# Altium footprint library ATK-2014-09-12.PcbLib: 439 footprints (part 7 of 28)
Each footprint in its own frame and in the unit in brackets; x right, y up, seen from the top. Pads: shape width x height; smd on the part's side, far side on the other; paste and mask are expansions set on the pad; w line width, h text height; cw(c..) or ccw(c..) is an arc to the next point about the centre after c.
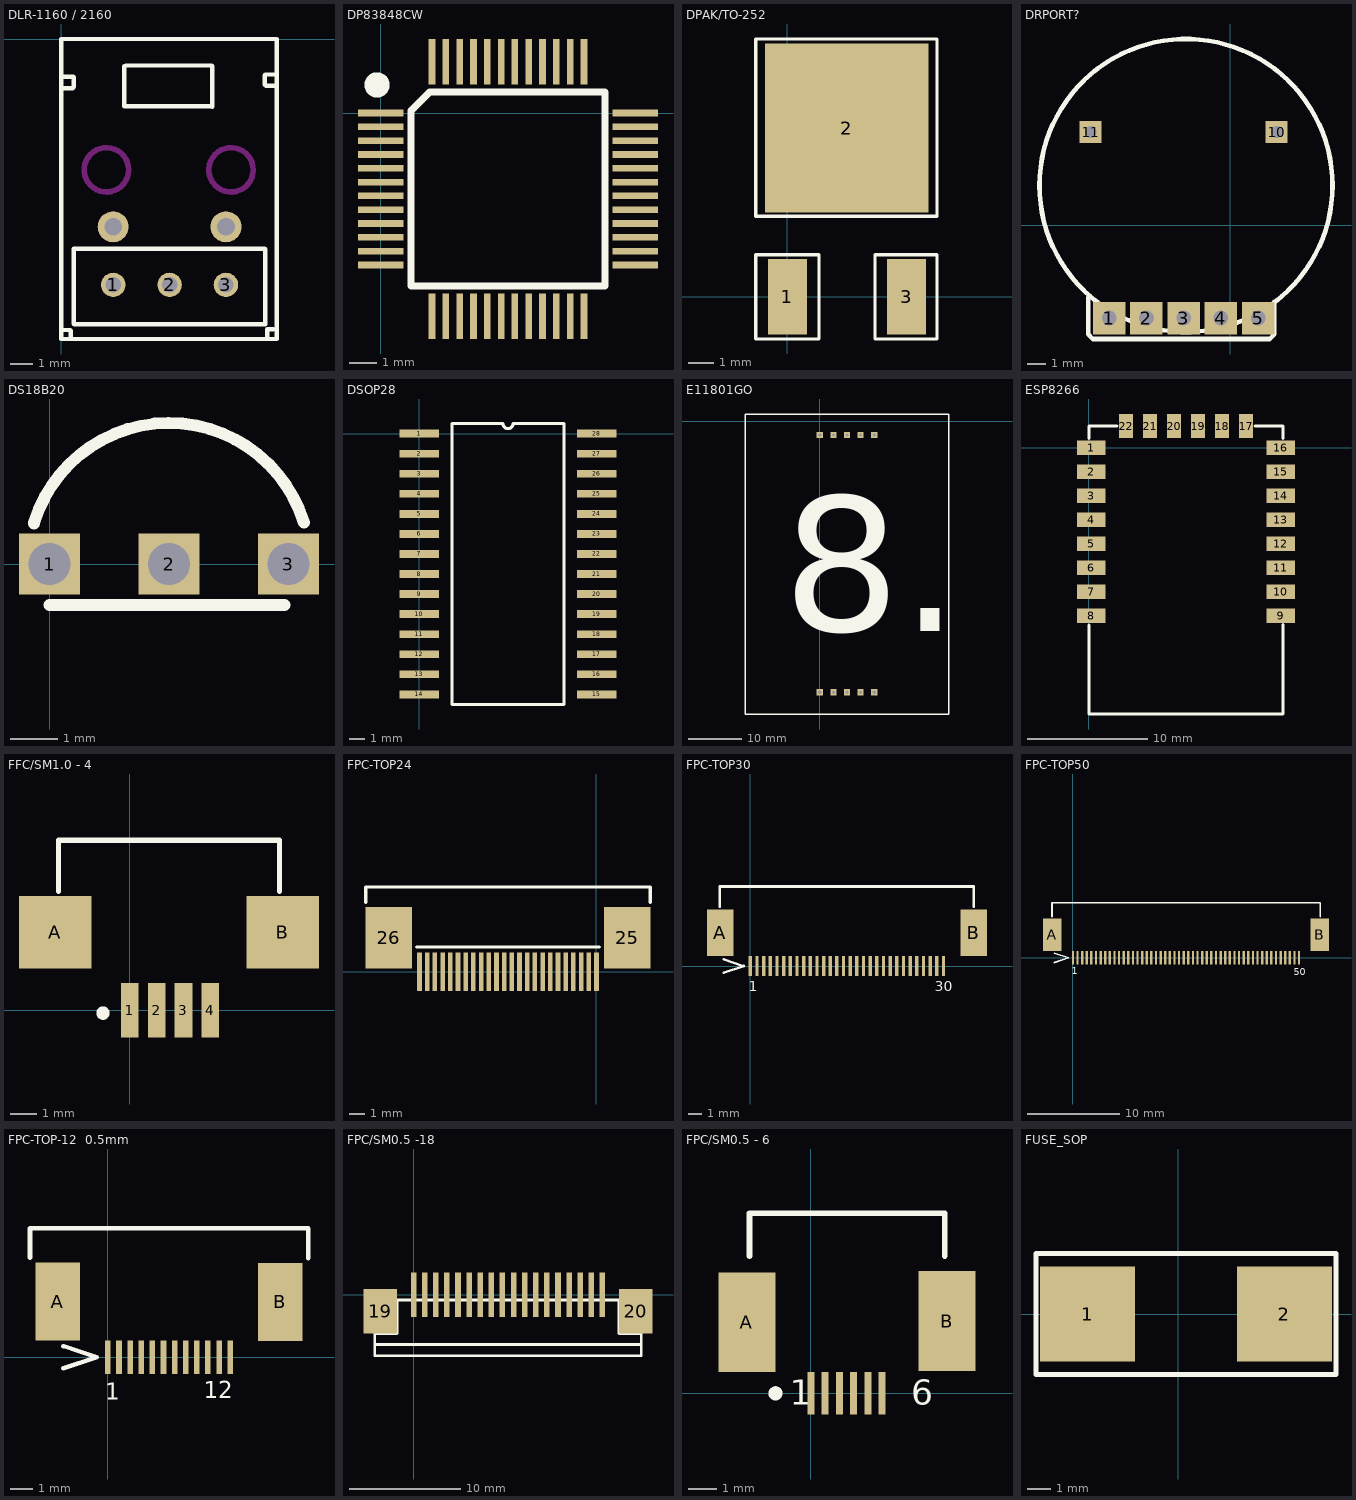
[diagram p6: the footprints below, top view; thin cyan lines are the x and y axes]

## DLR-1160 / 2160 [mm]
pads (5):
  round 1.1 hole 0.7: 1(2.337,-11.074) 2(4.877,-11.074) 3(7.417,-11.074)
  round 1.4 hole 0.8: ""(2.337,-8.458) ""(7.417,-8.458)
Top Overlay:
  lines w0.2: 0,-13.513 9.7,-13.513 ; 0,-13.5 0,0 9.7,0 ; 0.051,-1.702 0.533,-1.702 0.559,-1.727 0.559,-2.159 0.508,-2.21 0.102,-2.21 ; 0.102,-13.106 0.406,-13.106 0.432,-13.132 ; 0.432,-13.462 0.432,-13.183 ; 0.813,-9.449 9.169,-9.449 9.195,-9.474 9.195,-12.852 0.584,-12.852 0.559,-12.827 0.559,-9.449 0.838,-9.449 ; 2.845,-1.219 2.845,-3.023 6.782,-3.023 6.807,-3.048 6.807,-1.219 6.782,-1.194 2.896,-1.194 ; 9.271,-13.462 9.271,-13.081 ; 9.296,-13.081 9.55,-13.081 ; 9.601,-2.108 9.22,-2.108 9.169,-2.057 9.169,-1.626 9.195,-1.6 9.677,-1.6 ; 9.703,-13.5 9.703,0
Keep-Out Layer:
  circle w0.254: c7.645,-5.893 r1
  circle w0.254: c2.032,-5.893 r1

## DP83848CW [mil]
pads (48):
  rect 65x9.5 smd: 1(0.42,0.29) 2(0.42,-19.39) 3(0.42,-39.08) 4(0.42,-58.76) 5(0.42,-78.45) 6(0.42,-98.13) 7(0.42,-117.82) 8(0.42,-137.5) 9(0.42,-157.19) 10(0.42,-176.87) 11(0.42,-196.56) 12(0.42,-216.24) 25(362.63,-216.24) 26(362.63,-196.56) 27(362.63,-176.87) 28(362.63,-157.19) 29(362.63,-137.5) 30(362.63,-117.82) 31(362.63,-98.13) 32(362.63,-78.45) 33(362.63,-58.76) 34(362.63,-39.08) 35(362.63,-19.39) 36(362.63,0.29)
  rect 9.5x65 smd: 13(73.26,-289.08) 14(92.94,-289.08) 15(112.63,-289.08) 16(132.31,-289.08) 17(152,-289.08) 18(171.68,-289.08) 19(191.37,-289.08) 20(211.05,-289.08) 21(230.74,-289.08) 22(250.42,-289.08) 23(270.11,-289.08) 24(289.79,-289.08) 37(289.79,73.13) 38(270.11,73.13) 39(250.42,73.13) 40(230.74,73.13) 41(211.05,73.13) 42(191.37,73.13) 43(171.68,73.13) 44(152,73.13) 45(132.31,73.13) 46(112.63,73.13) 47(92.94,73.13) 48(73.26,73.13)
Top Overlay:
  circle w25: c-4.93,40.29 r5.35
  lines w10: 43.73,-245.77 43.73,3.6 69.95,29.82 319.32,29.82 319.32,-245.77 43.73,-245.77

## DPAK/TO-252 [mm] "SC-63, TO-252, SOT428"
pads (3):
  rect 1.5x2.9 smd: 1(0,0) 3(4.6,0)
  rect 6.3x6.5 smd: 2(2.286,6.502)
Top Overlay:
  lines w0.127: -1.219,-1.626 1.219,-1.626 1.219,1.626 -1.219,1.626 -1.219,-1.626 ; -1.219,3.099 -1.219,9.931 5.766,9.931 5.766,3.099 -1.219,3.099 ; 3.378,-1.626 3.378,1.626 5.766,1.626 5.766,-1.626 3.378,-1.626

## DRPORT? [mil] "DRPORT"
height 30
pads (7):
  rect 70x70 hole 31.5: 1(-260,-200) 2(-180,-200) 3(-100,-200) 4(-20,-200) 5(60,-200)
  rect 47.24x47.24 hole 25: 10(100,200) 11(-300,200)
Top Overlay:
  circle w10: c-94.96,85 r314.96
  lines w10: -305,-155 -305,-235 -295,-245 85,-245 95,-235 95,-165

## DS18B20 [mm]
height 10
pads (3):
  rect 1.3x1.3 hole 0.9: 1(0,0) 2(2.54,0) 3(5.08,0)
Top Overlay:
  lines w0.254: -0.333,0.862 cw(c2.54,0) 5.407,0.885 ; 0,-0.875 5,-0.875

## DSOP28 [mm] "DSIZE"
height 1
pads (28):
  rect 2.5x0.5 smd: 1(0,0) 2(0,-1.277) 3(0,-2.554) 4(0,-3.831) 5(0,-5.108) 6(0,-6.385) 7(0,-7.662) 8(0,-8.939) 9(0,-10.216) 10(0,-11.493) 11(0,-12.77) 12(0,-14.047) 13(0,-15.324) 14(0,-16.601) 15(11.3,-16.601) 16(11.3,-15.324) 17(11.3,-14.047) 18(11.3,-12.77) 19(11.3,-11.493) 20(11.3,-10.216) 21(11.3,-8.939) 22(11.3,-7.662) 23(11.3,-6.385) 24(11.3,-5.108) 25(11.3,-3.831) 26(11.3,-2.554) 27(11.3,-1.277) 28(11.3,0)
Top Overlay:
  lines w0.2: 2.085,-17.24 2.085,0.639 5.331,0.639 ccw(c5.65,0.639) 5.969,0.639 9.215,0.639 9.215,-17.24 2.085,-17.24

## E11801GO [mm] "E11801GO"
height 1.016
pads (10):
  rect 1.2x1.2 hole 0.635: 1(0,-2.54) 2(2.54,-2.54) 3(5.08,-2.54) 4(7.62,-2.54) 5(10.16,-2.54) 6(10.16,-50.8) 7(7.62,-50.8) 8(5.08,-50.8) 9(2.54,-50.8) 10(0,-50.8)
Top Overlay:
  lines w0.254: -10.16,1.397 22.86,1.397 24.13,1.397 24.13,-28.448 24.13,-54.864 -13.97,-54.864 -13.97,-38.862 -13.97,1.397 -9.906,1.397
  text "8." at -6.985,-39.37 h25.4

## ESP8266 [mm] "ESP8266 WIFI"
pads (22):
  rect 2.4x1.2 smd: 1(0.2,0) 2(0.2,-2) 3(0.2,-4) 4(0.2,-6) 5(0.2,-8) 6(0.2,-10) 7(0.2,-12) 8(0.2,-14) 9(16,-14) 10(16,-12) 11(16,-10) 12(16,-8) 13(16,-6) 14(16,-4) 15(16,-2) 16(16,0)
  rect 1.2x2 smd: 17(13.102,1.8) 18(11.102,1.8) 19(9.102,1.8) 20(7.102,1.8) 21(5.102,1.8) 22(3.102,1.8)
Top Overlay:
  lines w0.254: 0,-14.783 0,-22.2 16.2,-22.2 16.2,-14.732 ; 0,0.762 0,1.8 2.337,1.8 ; 13.843,1.8 16.2,1.8 16.2,0.762

## FFC/SM1.0 - 4 [mil]
height 102.36
pads (6):
  rect 26x80 smd: 1(0,0) 2(39.37,0) 3(78.74,0) 4(118.11,0)
  rect 106.3x106.3 smd: A(-110,115) B(225,115)
Top Overlay:
  circle w9.84: c-39.63,-4 r4.92
  lines w8: -105,175 -105,250 220,250 220,175

## FPC-TOP24 [mm] "FPCTOP;0.5mm;"
height 1
pads (26):
  rect 0.3x2.5 smd: 1(0,0) 2(-0.5,0) 3(-1,0) 4(-1.5,0) 5(-2,0) 6(-2.5,0) 7(-3,0) 8(-3.5,0) 9(-4,0) 10(-4.5,0) 11(-5,0) 12(-5.5,0) 13(-6,0) 14(-6.5,0) 15(-7,0) 16(-7.5,0) 17(-8,0) 18(-8.5,0) 19(-9,0) 20(-9.5,0) 21(-10,0) 22(-10.5,0) 23(-11,0) 24(-11.5,0)
  rect 3x4 smd: 25(2,2.2) 26(-13.5,2.2)
Top Overlay:
  lines w0.203: -15,4.5 -15,5.5 3.5,5.5 3.5,4.6 3.5,4.5 ; -11.7,1.6 0.2,1.6

## FPC-TOP30 [mm] "FPCTOP;0.5mm;"
height 1
pads (32):
  rect 0.25x1.5 smd: 1(0,0) 2(0.5,0) 3(1,0) 4(1.5,0) 5(2,0) 6(2.5,0) 7(3,0) 8(3.5,0) 9(4,0) 10(4.5,0) 11(5,0) 12(5.5,0) 13(6,0) 14(6.5,0) 15(7,0) 16(7.5,0) 17(8,0) 18(8.5,0) 19(9,0) 20(9.5,0) 21(10,0) 22(10.5,0) 23(11,0) 24(11.5,0) 25(12,0) 26(12.5,0) 27(13,0) 28(13.5,0) 29(14,0) 30(14.5,0)
  rect 2x3.5 smd: A(-2.25,2.5) B(16.764,2.5)
Top Overlay:
  lines w0.2: -2,-0.5 -0.5,0 -2,0.5
  lines w0.203: -2.286,4.47 -2.286,5.969 16.764,5.969 16.764,4.47
  text "30" at 13.843,-1.905 h0.76
  text "1" at -0.127,-1.905 h0.76

## FPC-TOP50 [mm] "FPCTOP;0.5mm;"
height 1
pads (52):
  rect 0.25x1.5 smd: 1(0,0) 2(0.5,0) 3(1,0) 4(1.5,0) 5(2,0) 6(2.5,0) 7(3,0) 8(3.5,0) 9(4,0) 10(4.5,0) 11(5,0) 12(5.5,0) 13(6,0) 14(6.5,0) 15(7,0) 16(7.5,0) 17(8,0) 18(8.5,0) 19(9,0) 20(9.5,0) 21(10,0) 22(10.5,0) 23(11,0) 24(11.5,0) 25(12,0) 26(12.5,0) 27(13,0) 28(13.5,0) 29(14,0) 30(14.5,0) 31(15,0) 32(15.5,0) 33(16,0) 34(16.5,0) 35(17,0) 36(17.5,0) 37(18,0) 38(18.5,0) 39(19,0) 40(19.5,0) 41(20,0) 42(20.5,0) 43(21,0) 44(21.5,0) 45(22,0) 46(22.5,0) 47(23,0) 48(23.5,0) 49(24,0) 50(24.5,0)
  rect 2x3.5 smd: A(-2.25,2.5) B(26.75,2.5)
Top Overlay:
  lines w0.2: -2,-0.5 -0.5,0 -2,0.5
  lines w0.203: -2.286,4.47 -2.286,5.969 22.306,5.969 26.797,5.969 26.797,4.47
  text "50" at 23.912,-1.894 h0.76
  text "1" at -0.142,-1.793 h0.76

## FPC-TOP-12  0.5mm [mm]
pads (14):
  rect 0.25x1.5 smd: 1(0,0) 2(0.5,0) 3(1,0) 4(1.5,0) 5(2,0) 6(2.5,0) 7(3,0) 8(3.5,0) 9(4,0) 10(4.5,0) 11(5,0) 12(5.5,0)
  rect 2x3.5 smd: A(-2.25,2.5) B(7.747,2.489)
Top Overlay:
  lines w0.2: -2,-0.5 -0.5,0 -2,0.5
  lines w0.203: -3.505,4.47 -3.505,5.791 9.017,5.791 9.017,4.445
  text "1" at -0.127,-1.905 h0.76
  text "12" at 4.318,-1.854 h0.76

## FPC/SM0.5 -18 [mm] "18PIN,1.0MM"
height 1
pads (20):
  rect 0.5x4 smd: 1(0,0) 2(1,0) 3(2,0) 4(3,0) 5(4,0) 6(5,0) 7(6,0) 8(7,0) 9(8,0) 10(9,0) 11(10,0) 12(11,0) 13(12,0) 14(13,0) 15(14,0) 16(15,0) 17(16,0) 18(17,0)
  rect 3x4 smd: 19(-3,-1.5) 20(20,-1.5)
Top Overlay:
  lines w0.254: -3.5,-4.5 20.5,-4.5 ; -3.5,-3.5 -1.5,-3.5 -1.5,-0.5 ; 18.5,-0.5 18.5,-3.5 20.5,-3.5 ; -3.5,-5.5 20.5,-5.5 20.5,-0.5 -3.5,-0.5 -3.5,-5.5

## FPC/SM0.5 - 6 [mm]
pads (8):
  rect 0.25x1.5 smd: 1(0,0) 2(0.5,0) 3(1,0) 4(1.5,0) 5(2,0) 6(2.5,0)
  rect 2x3.5 smd: A(-2.25,2.5) B(4.786,2.54)
Top Overlay:
  circle w0.25: c-1.243,0 r0.125
  lines w0.203: -2.159,4.826 -2.159,6.325 -1.214,6.325 4.699,6.325 4.699,4.826
  text "1" at -0.737,-0.406 h0.89
  text "6" at 3.531,-0.406 h0.89

## FUSE_SOP [mm] "4A;SOP;FUSE;W:5mm;L:12mm;"
height 2
pads (2):
  rect 4x4 smd: 1(-3.81,0) 2(4.445,0)
Top Overlay:
  lines w0.2: -5.969,-2.54 -5.969,2.54 -4.699,2.54 6.604,2.54 6.604,-2.54 -5.969,-2.54